# Altium schematic symbol library IC_LDO.SchLib: 5 symbols
Pins are listed as number, name and electrical type; pins without a type are passive.

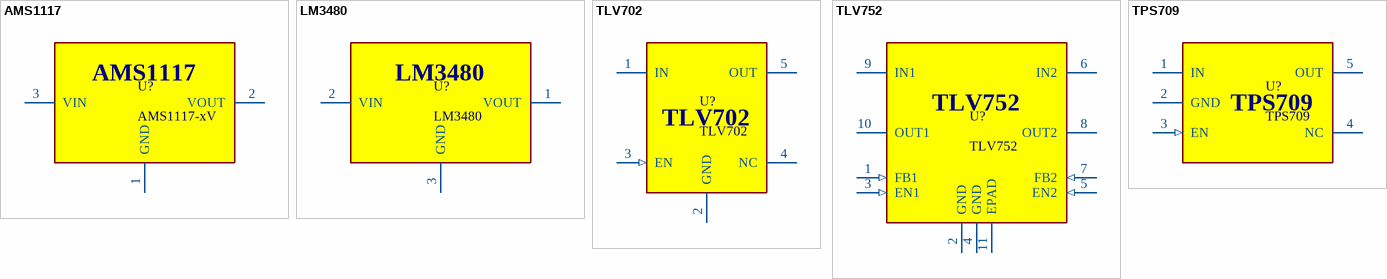
[diagram p0: symbols AMS1117 to TPS709]

## AMS1117
designator U?, comment AMS1117-xV
1A Low Dropout regulator.
footprint SOT223-3
pins: 1 GND (power), 2 VOUT (power), 3 VIN (power)

## LM3480
designator U?
100-mA SOT-23, Quasi Low-Dropout Linear Voltage Regulator.
footprint SOT23-3
pins: 1 VOUT (power), 2 VIN (power), 3 GND (power)

## TLV702
designator U?
TLV702 300-mA, Low-IQ, Low-Dropout Regulator; MPN: *; LCSC: *
footprint SOT23-5
pins: 1 IN (power), 2 GND (power), 3 EN (in), 4 NC, 5 OUT

## TLV752
designator U?
TLV752 Dual, 1-A, High-Accuracy, Adjustable-LDO in a Small-Size Package /; MPN: *; LCSC: *
footprint WSON10_2x2_P0.4
pins: 1 FB1 (in), 2 GND (power), 3 EN1 (in), 4 GND (power), 5 EN2 (in), 6 IN2 (power), 7 FB2 (in), 8 OUT2 (power), 9 IN1 (power), 10 OUT1 (power), 11 EPAD (power)

## TPS709
designator U?
150-mA, 30-V, 1-µA IQ Voltage Regulators With Enable; MPN: *; LCSC: *
footprint SOT23-5
pins: 1 IN (power), 2 GND (power), 3 EN (in), 4 NC, 5 OUT (power)